# EAGLE library part QX9920 (library QX9920)
LED Treiber QX9920 aus China - günstig
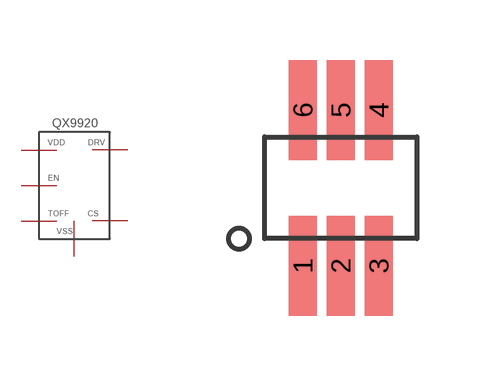
[diagram p0: symbol with the pads of QX9920; footprint QX9920]

Designator prefix -

## QX9920  [QX9920]
1  DRV
2  VSS
3  EN
4  VDD
5  TOFF
6  CS

## Footprint QX9920 (pad centres in mm)
smd 0.7 x 2.5: 1 -0.95,-1.95; 2 0,-1.95; 3 0.95,-1.95; 4 0.95,1.95; 5 0,1.95; 6 -0.95,1.95